# Altium footprint library molex_microfit_0436500204.PcbLib: 1 footprints
Each footprint in its own frame and in the unit in brackets; x right, y up, seen from the top. Pads: shape width x height; smd on the part's side, far side on the other; paste and mask are expansions set on the pad; w line width, h text height; cw(c..) or ccw(c..) is an arc to the next point about the centre after c.
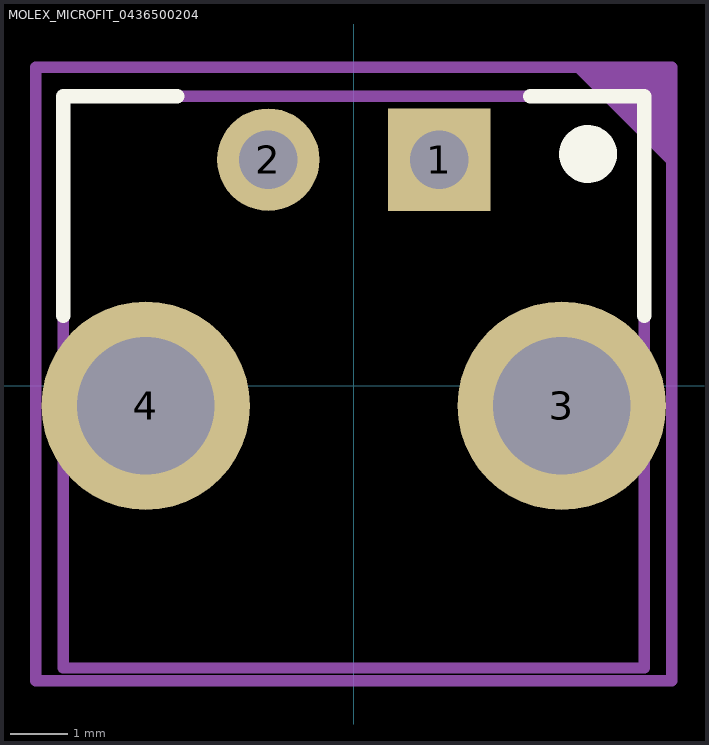
[diagram p0: the footprint, top view; thin cyan lines are the x and y axes]

## MOLEX_MICROFIT_0436500204 [mm]
pads (4):
  rect 1.8x1.8 hole 1.02: 1(1.5,3.965)
  round 1.8 hole 1.02: 2(-1.5,3.965)
  round 3.66 hole 2.41: 3(3.65,-0.355) 4(-3.65,-0.355)
Top Overlay:
  circle w0.508: c4.112,4.064 r0.254
  lines w0.254: -5.1,1.225 -5.1,5.08 -3.096,5.08 ; 3.096,5.08 5.1,5.08 5.1,1.225
Top 3D Body (Mech13):
  lines w0.2: -5.1,-4.955 -5.1,5.08 5.1,5.08 5.1,-4.955 -5.1,-4.955
Top Courtyard:
  region: 5.58,5.588 3.81,5.588 5.588,3.81 5.588,5.58
  lines w0.2: -5.58,-5.18 -5.58,5.588 5.58,5.588 5.58,-5.18 -5.58,-5.18
Top Designator:
  text ".Designator" at -1.397,-0.169 h0.64
3D body "Conn_Molex_43650-0204_eec.STEP": height 0.25, standoff 0, extent -5.58,-5.175 5.58,5.175